# EAGLE library part CONNECTOR_MCBSTM32 (library STMconnector)
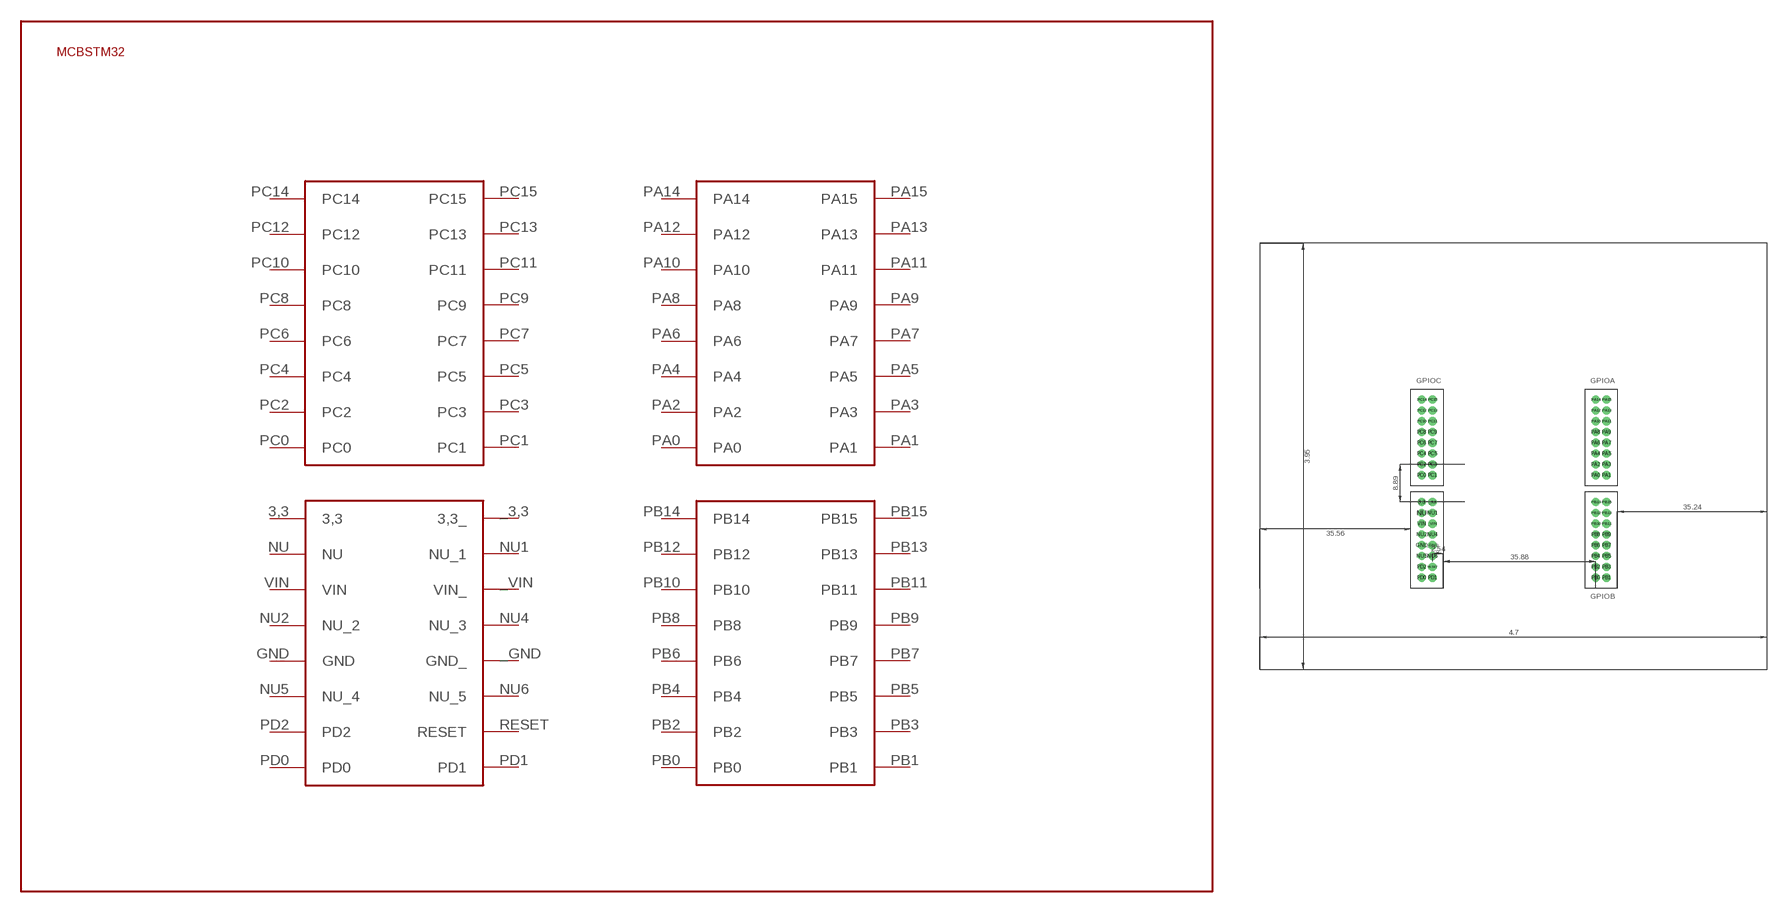
[diagram p0: symbol with the pads of CONNECTORSTM; footprint CONNECTORSTM]

Designator prefix MCBSTM32

## CONNECTOR_MCBSTM32  [CONNECTORSTM]
3,3  3,3
_3,3  3,3_
_GND  GND_
_VIN  VIN_
GND  GND
NU  NU
NU1  NU_1
NU2  NU_2
NU4  NU_3
NU5  NU_4
NU6  NU_5
PA0  PA0
PA1  PA1
PA2  PA2
PA3  PA3
PA4  PA4
PA5  PA5
PA6  PA6
PA7  PA7
PA8  PA8
PA9  PA9
PA10  PA10
PA11  PA11
PA12  PA12
PA13  PA13
PA14  PA14
PA15  PA15
PB0  PB0
PB1  PB1
PB2  PB2
PB3  PB3
PB4  PB4
PB5  PB5
PB6  PB6
PB7  PB7
PB8  PB8
PB9  PB9
PB10  PB10
PB11  PB11
PB12  PB12
PB13  PB13
PB14  PB14
PB15  PB15
PC0  PC0
PC1  PC1
PC2  PC2
PC3  PC3
PC4  PC4
PC5  PC5
PC6  PC6
PC7  PC7
PC8  PC8
PC9  PC9
PC10  PC10
PC11  PC11
PC12  PC12
PC13  PC13
PC14  PC14
PC15  PC15
PD0  PD0
PD1  PD1
PD2  PD2
RESET  RESET
VIN  VIN

## Footprint CONNECTORSTM (pad centres in mm)
drill 0.6 pad 1.93: 3,3 -22.86,-5.08; _3,3 -20.32,-5.08; _GND -20.32,-15.24; _VIN -20.32,-10.16; GND -22.86,-15.24; NU -22.86,-7.62; NU1 -20.32,-7.62; NU2 -22.86,-12.7; NU4 -20.32,-12.7; NU5 -22.86,-17.78; NU6 -20.32,-17.78; PA0 18.098,1.27; PA1 20.637,1.27; PA2 18.098,3.81; PA3 20.637,3.81; PA4 18.098,6.35; PA5 20.637,6.35; PA6 18.098,8.89; PA7 20.637,8.89; PA8 18.098,11.43; PA9 20.637,11.43; PA10 18.098,13.97; PA11 20.637,13.97; PA12 18.098,16.51; PA13 20.637,16.51; PA14 18.098,19.05; PA15 20.637,19.05; PB0 18.098,-22.86; PB1 20.637,-22.86; PB2 18.098,-20.32; PB3 20.637,-20.32; PB4 18.098,-17.78; PB5 20.637,-17.78; PB6 18.098,-15.24; PB7 20.637,-15.24; PB8 18.098,-12.7; PB9 20.637,-12.7; PB10 18.098,-10.16; PB11 20.637,-10.16; PB12 18.098,-7.62; PB13 20.637,-7.62; PB14 18.098,-5.08; PB15 20.637,-5.08; PC0 -22.86,1.27; PC1 -20.32,1.27; PC2 -22.86,3.81; PC3 -20.32,3.81; PC4 -22.86,6.35; PC5 -20.32,6.35; PC6 -22.86,8.89; PC7 -20.32,8.89; PC8 -22.86,11.43; PC9 -20.32,11.43; PC10 -22.86,13.97; PC11 -20.32,13.97; PC12 -22.86,16.51; PC13 -20.32,16.51; PC14 -22.86,19.05; PC15 -20.32,19.05; PD0 -22.86,-22.86; PD1 -20.32,-22.86; PD2 -22.86,-20.32; RESET -20.32,-20.32; VIN -22.86,-10.16